# EAGLE library part ADS8319 (library MeRCIS Lab Parts)
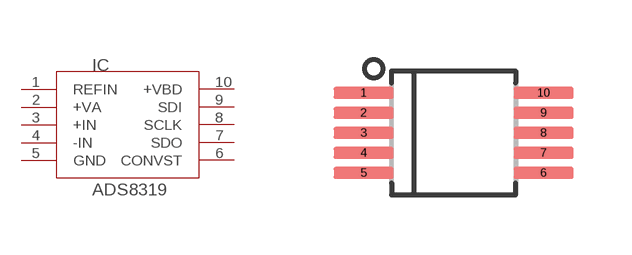
[diagram p1: symbol with the pads of VSSOP-10; footprint VSSOP-10]

Designator prefix IC

## ADS8319  [VSSOP-10]
1  REFIN  in
2  +VA  pwr
3  +IN  in
4  -IN  in
5  GND  pwr
6  CONVST
7  SDO
8  SCLK
9  SDI
10  +VBD  pwr

## Footprint VSSOP-10 (pad centres in mm)
smd 1.5 x 0.3: 1 -2.25,1; 2 -2.25,0.5; 3 -2.25,0; 4 -2.25,-0.5; 5 -2.25,-1; 6 2.25,-1; 7 2.25,-0.5; 8 2.25,0; 9 2.25,0.5; 10 2.25,1